# Altium footprint library DFN220X250X80-7.PcbLib: 1 footprints
Each footprint in its own frame and in the unit in brackets; x right, y up, seen from the top. Pads: shape width x height; smd on the part's side, far side on the other; paste and mask are expansions set on the pad; w line width, h text height; cw(c..) or ccw(c..) is an arc to the next point about the centre after c.
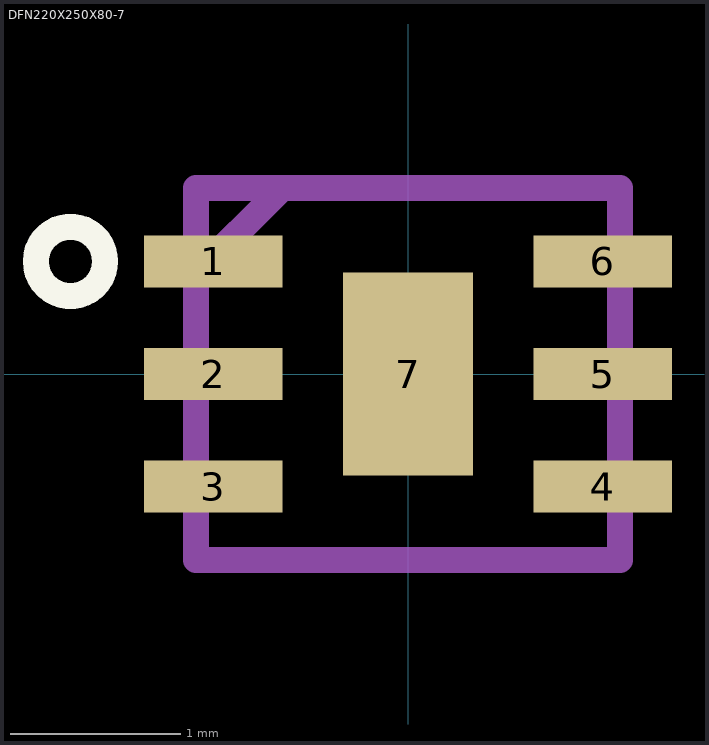
[diagram p0: the footprint, top view; thin cyan lines are the x and y axes]

## DFN220X250X80-7 [mil] "DFN + Body Width X Body Length X Height - #Pins"
height 31.5
pads (7):
  rect 32x12 smd: 1(-45,26) 2(-45,0) 3(-45,-26) 4(45,-26) 5(45,0) 6(45,26)
  rect 30x47 smd: 7(0,0)
Top Overlay:
  lines w0: -73.94,19.03 cw(c-77.64,26) -73.94,32.97
  lines w6: -86,26 ccw(c-78,26) -70,26 ccw(c-78,26) -86,26
Mechanical 1:
  lines w6: -49,23 -29,43 ; -49,-43 49,-43 49,43 -49,43 -49,-43
3D body "SDB06A.stp": height 24.09, standoff 0, extent -51.99,-45.5 54,45.52